# EAGLE library part AS-ITM-00096 (library tinycircuits)
IC RTC W/TCXO 20-SOIC
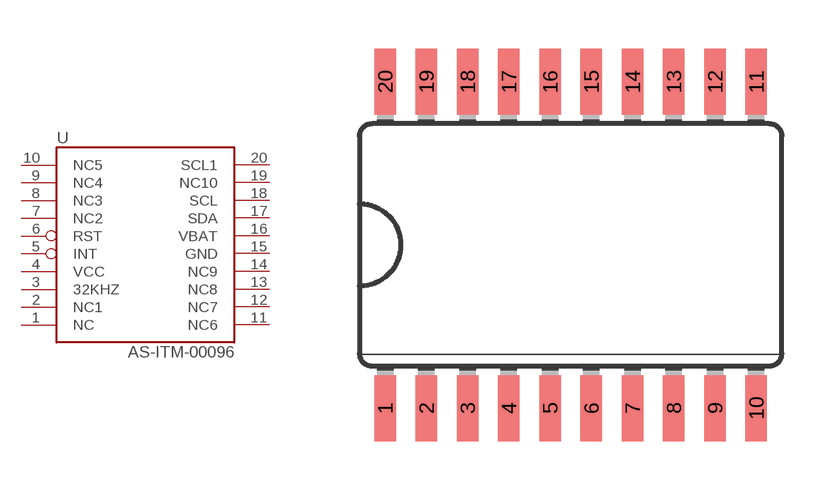
[diagram p39: symbol with the pads of SO20L; footprint SO20L]

Designator prefix U

## AS-ITM-00096 (PARTNO: AS-ITM-00096; VALUE: DS3232)  [SO20L]
1  NC
2  NC1
3  32KHZ
4  VCC
5  INT
6  RST
7  NC2
8  NC3
9  NC4
10  NC5
11  NC6
12  NC7
13  NC8
14  NC9
15  GND
16  VBAT
17  SDA
18  SCL
19  NC10
20  SCL1

## Footprint SO20L (pad centres in mm)
Small Outline Package
smd 0.66 x 2.032: 1 -5.715,-5.029; 2 -4.445,-5.029; 3 -3.175,-5.029; 4 -1.905,-5.029; 5 -0.635,-5.029; 6 0.635,-5.029; 7 1.905,-5.029; 8 3.175,-5.029; 9 4.445,-5.029; 10 5.715,-5.029; 11 5.715,5.029; 12 4.445,5.029; 13 3.175,5.029; 14 1.905,5.029; 15 0.635,5.029; 16 -0.635,5.029; 17 -1.905,5.029; 18 -3.175,5.029; 19 -4.445,5.029; 20 -5.715,5.029